# Altium integrated library Maxim Digital Potentiometers.IntLib: 1045 symbols (part 23 of 42)
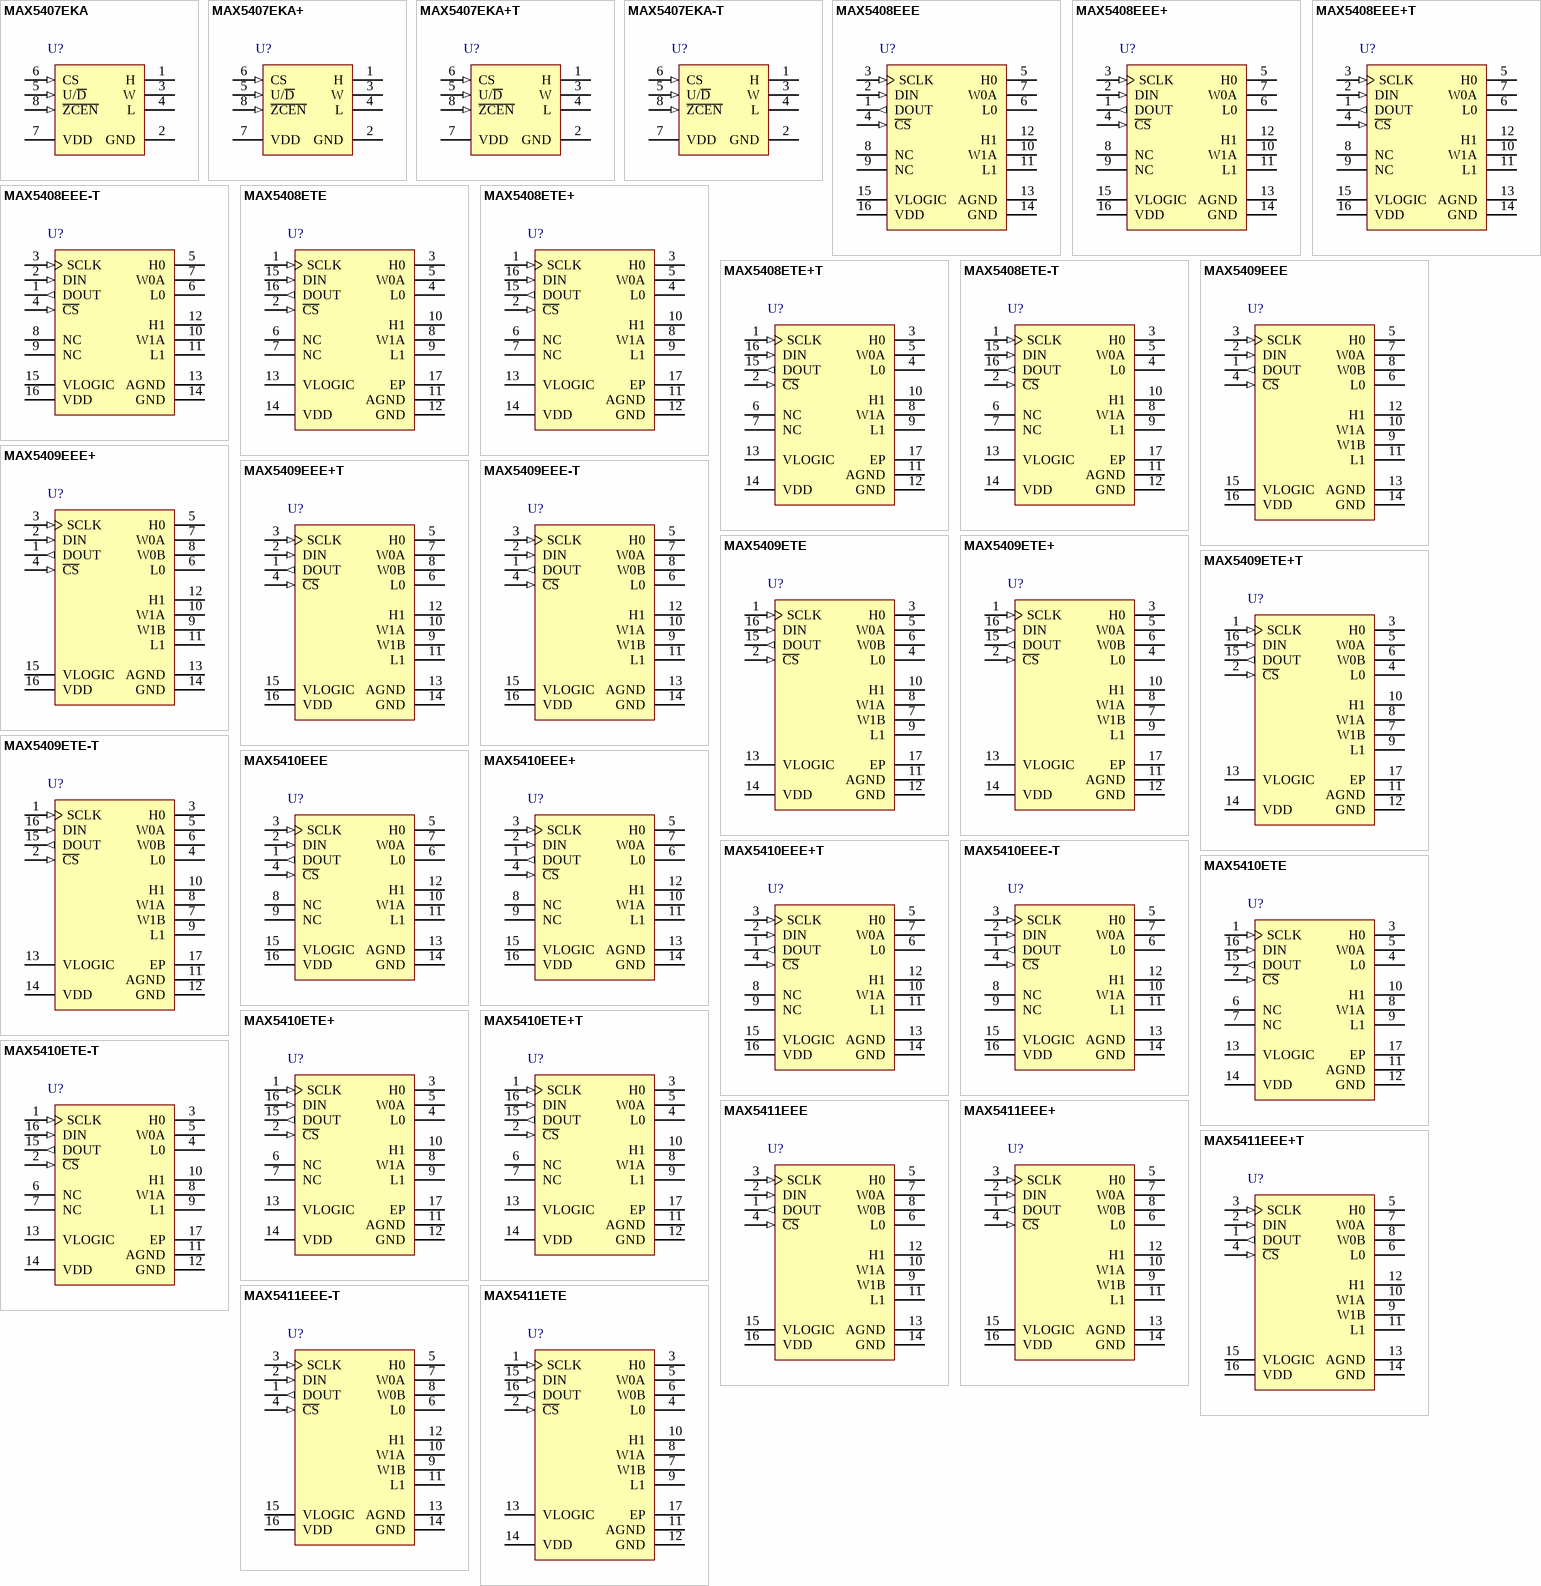
[diagram p51: symbols MAX5407EKA to MAX5411ETE]

## MAX5410EEE-T
designator U?
Dual Audio Digital Potentiometer with 3-Wire Serial SPI Control Interface, Volatile, Log Taper, 32 Steps, -40 to 85 degC, 16-pin QSOP (E16-1), Tape and Reel; PartNumber: MAX5410EEE-T; DatasheetVersion: Rev. 3; PackageVersion: Rev. K, 04/2012; PackageReference: E16-1; PackageDescription: 16-Pin Quarter Small-Outline Package (E16-1), Body 4.90 x 3.89 mm, Pitch 0.635 mm; Supplier 1: Mouser; Supplier Part Number 1: N/A; Control Interface: 3-Wire Serial SPI; Mounting Technology: Surface Mount; Code_JEDEC: MO137; ComponentLink1Description: Manufacturer URL; ComponentLink1URL: http://www.maximintegrated.com/; ComponentLink2Description: Datasheet; ComponentLink2URL: http://datasheets.maximintegrated.com/en/ds/MAX5408-MAX5411.pdf; ComponentLink3Description: Package Specification; ComponentLink3URL: http://pdfserv.maximintegrated.com/package_dwgs/21-0055.PDF
footprint MAXM-E16-1_N (SOP, 16-Leads, Body 4.9x3.89mm, Pitch 0.635mm, IPC Medium Density)
footprint MAXM-E16-1_L (SOP, 16-Leads, Body 4.9x3.89mm, Pitch 0.635mm, IPC High Density)
footprint MAXM-E16-1_M (SOP, 16-Leads, Body 4.9x3.89mm, Pitch 0.635mm, IPC Low Density)
pins: 1 DOUT (out) "Serial Data Output", 2 DIN (in) "Serial Data Input", 3 SCLK (in) "Serial Clock Input", 4 ~{CS} (in) "Chip-Select Input", 5 H0 "High Terminal of Resistor 0", 6 L0 "Low Terminal of Resistor 0", 7 W0A "Wiper Terminal A of Resistor 0", 8 NC "No Connection. Not internally connected.", 9 NC "No Connection. Not internally connected.", 10 W1A "Wiper Terminal A of Resistor 1", 11 L1 "Low Terminal of Resistor 1", 12 H1 "High Terminal of Resistor 1", 13 AGND (power) "Analog Ground", 14 GND (power) "Ground", 15 VLOGIC (power) "Digital Logic Power Supply", 16 VDD (power) "Analog Power Supply"

## MAX5410ETE
designator U?
Dual Audio Digital Potentiometer with 3-Wire Serial SPI Control Interface, Volatile, Log Taper, 32 Steps, -40 to 85 degC, 16-pin TQFN (T1644-4); PartNumber: MAX5410ETE; DatasheetVersion: Rev. 3; PackageVersion: Rev. L, 04/2012; PackageReference: T1644-4; PackageDescription: 16-Pin Thin Quad Flatpack, No Leads (T1644-4), Body 4 x 4 mm, Pitch 0.65 mm; Supplier 1: Mouser; Supplier Part Number 1: N/A; Control Interface: 3-Wire Serial SPI; Mounting Technology: Surface Mount; Code_JEDEC: MO220; ComponentLink1Description: Manufacturer URL; ComponentLink1URL: http://www.maximintegrated.com/; ComponentLink2Description: Datasheet; ComponentLink2URL: http://datasheets.maximintegrated.com/en/ds/MAX5408-MAX5411.pdf; ComponentLink3Description: Package Specification; ComponentLink3URL: http://pdfserv.maximintegrated.com/package_dwgs/21-0139.PDF
footprint MAXM-T1644-4_N (QFN, 16-Leads, Body 4x4mm, Pitch 0.65mm, Thermal Pad 2.1x2.1mm, IPC Medium Density)
footprint MAXM-T1644-4_L (QFN, 16-Leads, Body 4x4mm, Pitch 0.65mm, Thermal Pad 2.1x2.1mm, IPC High Density)
footprint MAXM-T1644-4_M (QFN, 16-Leads, Body 4x4mm, Pitch 0.65mm, Thermal Pad 2.1x2.1mm, IPC Low Density)
pins: 1 SCLK (in) "Serial Clock Input", 2 ~{CS} (in) "Chip-Select Input", 3 H0 "High Terminal of Resistor 0", 4 L0 "Low Terminal of Resistor 0", 5 W0A "Wiper Terminal A of Resistor 0", 6 NC "No Connection. Not internally connected.", 7 NC "No Connection. Not internally connected.", 8 W1A "Wiper Terminal A of Resistor 1", 9 L1 "Low Terminal of Resistor 1", 10 H1 "High Terminal of Resistor 1", 11 AGND (power) "Analog Ground", 12 GND (power) "Ground", 13 VLOGIC (power) "Digital Logic Power Supply", 14 VDD (power) "Analog Power Supply", 15 DOUT (out) "Serial Data Output", 16 DIN (in) "Serial Data Input", 17 EP

## MAX5410ETE+
designator U?
Dual Audio Digital Potentiometer with 3-Wire Serial SPI Control Interface, Volatile, Log Taper, 32 Steps, -40 to 85 degC, 16-pin TQFN (T1644+4), Pb-Free; PartNumber: MAX5410ETE+; DatasheetVersion: Rev. 3; PackageVersion: Rev. L, 04/2012; PackageReference: T1644+4; PackageDescription: 16-Pin Thin Quad Flatpack, No Leads (T1644+4), Body 4 x 4 mm, Pitch 0.65 mm; Supplier 1: Digi-Key; Supplier Part Number 1: MAX5410ETE+-ND; Supplier 2: Mouser; Supplier Part Number 2: 700-MAX5410ETE; Control Interface: 3-Wire Serial SPI; Mounting Technology: Surface Mount; Code_JEDEC: MO220; ComponentLink1Description: Manufacturer URL; ComponentLink1URL: http://www.maximintegrated.com/; ComponentLink2Description: Datasheet; ComponentLink2URL: http://datasheets.maximintegrated.com/en/ds/MAX5408-MAX5411.pdf; ComponentLink3Description: Package Specification; ComponentLink3URL: http://pdfserv.maximintegrated.com/package_dwgs/21-0139.PDF
footprint MAXM-T1644+4_N (QFN, 16-Leads, Body 4x4mm, Pitch 0.65mm, Thermal Pad 2.1x2.1mm, IPC Medium Density)
footprint MAXM-T1644+4_L (QFN, 16-Leads, Body 4x4mm, Pitch 0.65mm, Thermal Pad 2.1x2.1mm, IPC High Density)
footprint MAXM-T1644+4_M (QFN, 16-Leads, Body 4x4mm, Pitch 0.65mm, Thermal Pad 2.1x2.1mm, IPC Low Density)
pins: 1 SCLK (in) "Serial Clock Input", 2 ~{CS} (in) "Chip-Select Input", 3 H0 "High Terminal of Resistor 0", 4 L0 "Low Terminal of Resistor 0", 5 W0A "Wiper Terminal A of Resistor 0", 6 NC "No Connection. Not internally connected.", 7 NC "No Connection. Not internally connected.", 8 W1A "Wiper Terminal A of Resistor 1", 9 L1 "Low Terminal of Resistor 1", 10 H1 "High Terminal of Resistor 1", 11 AGND (power) "Analog Ground", 12 GND (power) "Ground", 13 VLOGIC (power) "Digital Logic Power Supply", 14 VDD (power) "Analog Power Supply", 15 DOUT (out) "Serial Data Output", 16 DIN (in) "Serial Data Input", 17 EP

## MAX5410ETE+T
designator U?
Dual Audio Digital Potentiometer with 3-Wire Serial SPI Control Interface, Volatile, Log Taper, 32 Steps, -40 to 85 degC, 16-pin TQFN (T1644+4), Pb-Free, Tape and Reel; PartNumber: MAX5410ETE+T; DatasheetVersion: Rev. 3; PackageVersion: Rev. L, 04/2012; PackageReference: T1644+4; PackageDescription: 16-Pin Thin Quad Flatpack, No Leads (T1644+4), Body 4 x 4 mm, Pitch 0.65 mm; Supplier 1: Digi-Key; Supplier Part Number 1: MAX5410ETE+T-ND; Supplier 2: Mouser; Supplier Part Number 2: 700-MAX5410ETET; Control Interface: 3-Wire Serial SPI; Mounting Technology: Surface Mount; Code_JEDEC: MO220; ComponentLink1Description: Manufacturer URL; ComponentLink1URL: http://www.maximintegrated.com/; ComponentLink2Description: Datasheet; ComponentLink2URL: http://datasheets.maximintegrated.com/en/ds/MAX5408-MAX5411.pdf; ComponentLink3Description: Package Specification; ComponentLink3URL: http://pdfserv.maximintegrated.com/package_dwgs/21-0139.PDF
footprint MAXM-T1644+4_N (QFN, 16-Leads, Body 4x4mm, Pitch 0.65mm, Thermal Pad 2.1x2.1mm, IPC Medium Density)
footprint MAXM-T1644+4_L (QFN, 16-Leads, Body 4x4mm, Pitch 0.65mm, Thermal Pad 2.1x2.1mm, IPC High Density)
footprint MAXM-T1644+4_M (QFN, 16-Leads, Body 4x4mm, Pitch 0.65mm, Thermal Pad 2.1x2.1mm, IPC Low Density)
pins: 1 SCLK (in) "Serial Clock Input", 2 ~{CS} (in) "Chip-Select Input", 3 H0 "High Terminal of Resistor 0", 4 L0 "Low Terminal of Resistor 0", 5 W0A "Wiper Terminal A of Resistor 0", 6 NC "No Connection. Not internally connected.", 7 NC "No Connection. Not internally connected.", 8 W1A "Wiper Terminal A of Resistor 1", 9 L1 "Low Terminal of Resistor 1", 10 H1 "High Terminal of Resistor 1", 11 AGND (power) "Analog Ground", 12 GND (power) "Ground", 13 VLOGIC (power) "Digital Logic Power Supply", 14 VDD (power) "Analog Power Supply", 15 DOUT (out) "Serial Data Output", 16 DIN (in) "Serial Data Input", 17 EP

## MAX5410ETE-T
designator U?
Dual Audio Digital Potentiometer with 3-Wire Serial SPI Control Interface, Volatile, Log Taper, 32 Steps, -40 to 85 degC, 16-pin TQFN (T1644-4), Tape and Reel; PartNumber: MAX5410ETE-T; DatasheetVersion: Rev. 3; PackageVersion: Rev. L, 04/2012; PackageReference: T1644-4; PackageDescription: 16-Pin Thin Quad Flatpack, No Leads (T1644-4), Body 4 x 4 mm, Pitch 0.65 mm; Supplier 1: Mouser; Supplier Part Number 1: N/A; Control Interface: 3-Wire Serial SPI; Mounting Technology: Surface Mount; Code_JEDEC: MO220; ComponentLink1Description: Manufacturer URL; ComponentLink1URL: http://www.maximintegrated.com/; ComponentLink2Description: Datasheet; ComponentLink2URL: http://datasheets.maximintegrated.com/en/ds/MAX5408-MAX5411.pdf; ComponentLink3Description: Package Specification; ComponentLink3URL: http://pdfserv.maximintegrated.com/package_dwgs/21-0139.PDF
footprint MAXM-T1644-4_N (QFN, 16-Leads, Body 4x4mm, Pitch 0.65mm, Thermal Pad 2.1x2.1mm, IPC Medium Density)
footprint MAXM-T1644-4_L (QFN, 16-Leads, Body 4x4mm, Pitch 0.65mm, Thermal Pad 2.1x2.1mm, IPC High Density)
footprint MAXM-T1644-4_M (QFN, 16-Leads, Body 4x4mm, Pitch 0.65mm, Thermal Pad 2.1x2.1mm, IPC Low Density)
pins: 1 SCLK (in) "Serial Clock Input", 2 ~{CS} (in) "Chip-Select Input", 3 H0 "High Terminal of Resistor 0", 4 L0 "Low Terminal of Resistor 0", 5 W0A "Wiper Terminal A of Resistor 0", 6 NC "No Connection. Not internally connected.", 7 NC "No Connection. Not internally connected.", 8 W1A "Wiper Terminal A of Resistor 1", 9 L1 "Low Terminal of Resistor 1", 10 H1 "High Terminal of Resistor 1", 11 AGND (power) "Analog Ground", 12 GND (power) "Ground", 13 VLOGIC (power) "Digital Logic Power Supply", 14 VDD (power) "Analog Power Supply", 15 DOUT (out) "Serial Data Output", 16 DIN (in) "Serial Data Input", 17 EP

## MAX5411EEE
designator U?
Dual Audio Digital Potentiometer with 3-Wire Serial SPI Control Interface, Volatile, Log Taper, 32 Steps, -40 to 85 degC, 16-pin QSOP (E16-4); PartNumber: MAX5411EEE; DatasheetVersion: Rev. 3; PackageVersion: Rev. K, 04/2012; PackageReference: E16-4; PackageDescription: 16-Pin Quarter Small-Outline Package, Body 4.90 x 3.89 mm, Pitch 0.635 mm; Supplier 1: Mouser; Supplier Part Number 1: N/A; Control Interface: 3-Wire Serial SPI; Features: Dual Wipers Per Resistor String; Mounting Technology: Surface Mount; Code_JEDEC: MO137; ComponentLink1Description: Manufacturer URL; ComponentLink1URL: http://www.maximintegrated.com/; ComponentLink2Description: Datasheet; ComponentLink2URL: http://datasheets.maximintegrated.com/en/ds/MAX5408-MAX5411.pdf; ComponentLink3Description: Package Specification; ComponentLink3URL: http://pdfserv.maximintegrated.com/package_dwgs/21-0055.PDF
footprint MAXM-E16-4_N (SOP, 16-Leads, Body 4.90x3.89mm, Pitch 0.635mm, IPC Medium Density)
footprint MAXM-E16-4_L (SOP, 16-Leads, Body 4.90x3.89mm, Pitch 0.635mm, IPC High Density)
footprint MAXM-E16-4_M (SOP, 16-Leads, Body 4.90x3.89mm, Pitch 0.635mm, IPC Low Density)
pins: 1 DOUT (out) "Serial Data Output", 2 DIN (in) "Serial Data Input", 3 SCLK (in) "Serial Clock Input", 4 ~{CS} (in) "Chip-Select Input", 5 H0 "High Terminal of Resistor 0", 6 L0 "Low Terminal of Resistor 0", 7 W0A "Wiper Terminal A of Resistor 0", 8 W0B "Wiper Terminal B of Resistor 0", 9 W1B "Wiper Terminal B of Resistor 1", 10 W1A "Wiper Terminal A of Resistor 1", 11 L1 "Low Terminal of Resistor 1", 12 H1 "High Terminal of Resistor 1", 13 AGND (power) "Analog Ground", 14 GND (power) "Ground", 15 VLOGIC (power) "Digital Logic Power Supply", 16 VDD (power) "Analog Power Supply"

## MAX5411EEE+
designator U?
Dual Audio Digital Potentiometer with 3-Wire Serial SPI Control Interface, Volatile, Log Taper, 32 Steps, -40 to 85 degC, 16-pin QSOP (E16+4), Pb-Free; PartNumber: MAX5411EEE+; DatasheetVersion: Rev. 3; PackageVersion: Rev. K, 04/2012; PackageReference: E16+4; PackageDescription: 16-Pin Quarter Small-Outline Package, Body 4.90 x 3.89 mm, Pitch 0.635 mm; Supplier 1: Digi-Key; Supplier Part Number 1: MAX5411EEE+-ND; Supplier 2: Mouser; Supplier Part Number 2: 700-MAX5411EEE; Control Interface: 3-Wire Serial SPI; Features: Dual Wipers Per Resistor String; Mounting Technology: Surface Mount; Code_JEDEC: MO137; ComponentLink1Description: Manufacturer URL; ComponentLink1URL: http://www.maximintegrated.com/; ComponentLink2Description: Datasheet; ComponentLink2URL: http://datasheets.maximintegrated.com/en/ds/MAX5408-MAX5411.pdf; ComponentLink3Description: Package Specification; ComponentLink3URL: http://pdfserv.maximintegrated.com/package_dwgs/21-0055.PDF
footprint MAXM-E16+4_N (SOP, 16-Leads, Body 4.90x3.89mm, Pitch 0.635mm, IPC Medium Density)
footprint MAXM-E16+4_L (SOP, 16-Leads, Body 4.90x3.89mm, Pitch 0.635mm, IPC High Density)
footprint MAXM-E16+4_M (SOP, 16-Leads, Body 4.90x3.89mm, Pitch 0.635mm, IPC Low Density)
pins: 1 DOUT (out) "Serial Data Output", 2 DIN (in) "Serial Data Input", 3 SCLK (in) "Serial Clock Input", 4 ~{CS} (in) "Chip-Select Input", 5 H0 "High Terminal of Resistor 0", 6 L0 "Low Terminal of Resistor 0", 7 W0A "Wiper Terminal A of Resistor 0", 8 W0B "Wiper Terminal B of Resistor 0", 9 W1B "Wiper Terminal B of Resistor 1", 10 W1A "Wiper Terminal A of Resistor 1", 11 L1 "Low Terminal of Resistor 1", 12 H1 "High Terminal of Resistor 1", 13 AGND (power) "Analog Ground", 14 GND (power) "Ground", 15 VLOGIC (power) "Digital Logic Power Supply", 16 VDD (power) "Analog Power Supply"

## MAX5411EEE+T
designator U?
Dual Audio Digital Potentiometer with 3-Wire Serial SPI Control Interface, Volatile, Log Taper, 32 Steps, -40 to 85 degC, 16-pin QSOP (E16+4), Pb-Free, Tape and Reel; PartNumber: MAX5411EEE+T; DatasheetVersion: Rev. 3; PackageVersion: Rev. K, 04/2012; PackageReference: E16+4; PackageDescription: 16-Pin Quarter Small-Outline Package, Body 4.90 x 3.89 mm, Pitch 0.635 mm; Supplier 1: Digi-Key; Supplier Part Number 1: MAX5411EEE+T-ND; Supplier 2: Mouser; Supplier Part Number 2: 700-MAX5411EEET; Control Interface: 3-Wire Serial SPI; Features: Dual Wipers Per Resistor String; Mounting Technology: Surface Mount; Code_JEDEC: MO137; ComponentLink1Description: Manufacturer URL; ComponentLink1URL: http://www.maximintegrated.com/; ComponentLink2Description: Datasheet; ComponentLink2URL: http://datasheets.maximintegrated.com/en/ds/MAX5408-MAX5411.pdf; ComponentLink3Description: Package Specification; ComponentLink3URL: http://pdfserv.maximintegrated.com/package_dwgs/21-0055.PDF
footprint MAXM-E16+4_N (SOP, 16-Leads, Body 4.90x3.89mm, Pitch 0.635mm, IPC Medium Density)
footprint MAXM-E16+4_L (SOP, 16-Leads, Body 4.90x3.89mm, Pitch 0.635mm, IPC High Density)
footprint MAXM-E16+4_M (SOP, 16-Leads, Body 4.90x3.89mm, Pitch 0.635mm, IPC Low Density)
pins: 1 DOUT (out) "Serial Data Output", 2 DIN (in) "Serial Data Input", 3 SCLK (in) "Serial Clock Input", 4 ~{CS} (in) "Chip-Select Input", 5 H0 "High Terminal of Resistor 0", 6 L0 "Low Terminal of Resistor 0", 7 W0A "Wiper Terminal A of Resistor 0", 8 W0B "Wiper Terminal B of Resistor 0", 9 W1B "Wiper Terminal B of Resistor 1", 10 W1A "Wiper Terminal A of Resistor 1", 11 L1 "Low Terminal of Resistor 1", 12 H1 "High Terminal of Resistor 1", 13 AGND (power) "Analog Ground", 14 GND (power) "Ground", 15 VLOGIC (power) "Digital Logic Power Supply", 16 VDD (power) "Analog Power Supply"

## MAX5411EEE-T
designator U?
Dual Audio Digital Potentiometer with 3-Wire Serial SPI Control Interface, Volatile, Log Taper, 32 Steps, -40 to 85 degC, 16-pin QSOP (E16-4), Tape and Reel; PartNumber: MAX5411EEE-T; DatasheetVersion: Rev. 3; PackageVersion: Rev. K, 04/2012; PackageReference: E16-4; PackageDescription: 16-Pin Quarter Small-Outline Package, Body 4.90 x 3.89 mm, Pitch 0.635 mm; Supplier 1: Mouser; Supplier Part Number 1: N/A; Control Interface: 3-Wire Serial SPI; Features: Dual Wipers Per Resistor String; Mounting Technology: Surface Mount; Code_JEDEC: MO137; ComponentLink1Description: Manufacturer URL; ComponentLink1URL: http://www.maximintegrated.com/; ComponentLink2Description: Datasheet; ComponentLink2URL: http://datasheets.maximintegrated.com/en/ds/MAX5408-MAX5411.pdf; ComponentLink3Description: Package Specification; ComponentLink3URL: http://pdfserv.maximintegrated.com/package_dwgs/21-0055.PDF
footprint MAXM-E16-4_N (SOP, 16-Leads, Body 4.90x3.89mm, Pitch 0.635mm, IPC Medium Density)
footprint MAXM-E16-4_L (SOP, 16-Leads, Body 4.90x3.89mm, Pitch 0.635mm, IPC High Density)
footprint MAXM-E16-4_M (SOP, 16-Leads, Body 4.90x3.89mm, Pitch 0.635mm, IPC Low Density)
pins: 1 DOUT (out) "Serial Data Output", 2 DIN (in) "Serial Data Input", 3 SCLK (in) "Serial Clock Input", 4 ~{CS} (in) "Chip-Select Input", 5 H0 "High Terminal of Resistor 0", 6 L0 "Low Terminal of Resistor 0", 7 W0A "Wiper Terminal A of Resistor 0", 8 W0B "Wiper Terminal B of Resistor 0", 9 W1B "Wiper Terminal B of Resistor 1", 10 W1A "Wiper Terminal A of Resistor 1", 11 L1 "Low Terminal of Resistor 1", 12 H1 "High Terminal of Resistor 1", 13 AGND (power) "Analog Ground", 14 GND (power) "Ground", 15 VLOGIC (power) "Digital Logic Power Supply", 16 VDD (power) "Analog Power Supply"

## MAX5411ETE
designator U?
Dual Audio Digital Potentiometer with 3-Wire Serial SPI Control Interface, Volatile, Log Taper, 32 Steps, -40 to 85 degC, 16-pin TQFN (T1644-4); PartNumber: MAX5411ETE; DatasheetVersion: Rev. 3; PackageVersion: Rev. L, 04/2012; PackageReference: T1644-4; PackageDescription: 16-Pin Thin Quad Flatpack, No Leads (T1644-4), Body 4 x 4 mm, Pitch 0.65 mm; Supplier 1: Mouser; Supplier Part Number 1: N/A; Control Interface: 3-Wire Serial SPI; Features: Dual Wipers Per Resistor String; Mounting Technology: Surface Mount; Code_JEDEC: MO220; ComponentLink1Description: Manufacturer URL; ComponentLink1URL: http://www.maximintegrated.com/; ComponentLink2Description: Datasheet; ComponentLink2URL: http://datasheets.maximintegrated.com/en/ds/MAX5408-MAX5411.pdf; ComponentLink3Description: Package Specification; ComponentLink3URL: http://pdfserv.maximintegrated.com/package_dwgs/21-0139.PDF
footprint MAXM-T1644-4_N (QFN, 16-Leads, Body 4x4mm, Pitch 0.65mm, Thermal Pad 2.1x2.1mm, IPC Medium Density)
footprint MAXM-T1644-4_L (QFN, 16-Leads, Body 4x4mm, Pitch 0.65mm, Thermal Pad 2.1x2.1mm, IPC High Density)
footprint MAXM-T1644-4_M (QFN, 16-Leads, Body 4x4mm, Pitch 0.65mm, Thermal Pad 2.1x2.1mm, IPC Low Density)
pins: 1 SCLK (in) "Serial Clock Input", 2 ~{CS} (in) "Chip-Select Input", 3 H0 "High Terminal of Resistor 0", 4 L0 "Low Terminal of Resistor 0", 5 W0A "Wiper Terminal A of Resistor 0", 6 W0B "Wiper Terminal B of Resistor 0", 7 W1B "Wiper Terminal B of Resistor 1", 8 W1A "Wiper Terminal A of Resistor 1", 9 L1 "Low Terminal of Resistor 1", 10 H1 "High Terminal of Resistor 1", 11 AGND (power) "Analog Ground", 12 GND (power) "Ground", 13 VLOGIC (power) "Digital Logic Power Supply", 14 VDD (power) "Analog Power Supply", 15 DIN (in) "Serial Data Input", 16 DOUT (out) "Serial Data Output", 17 EP

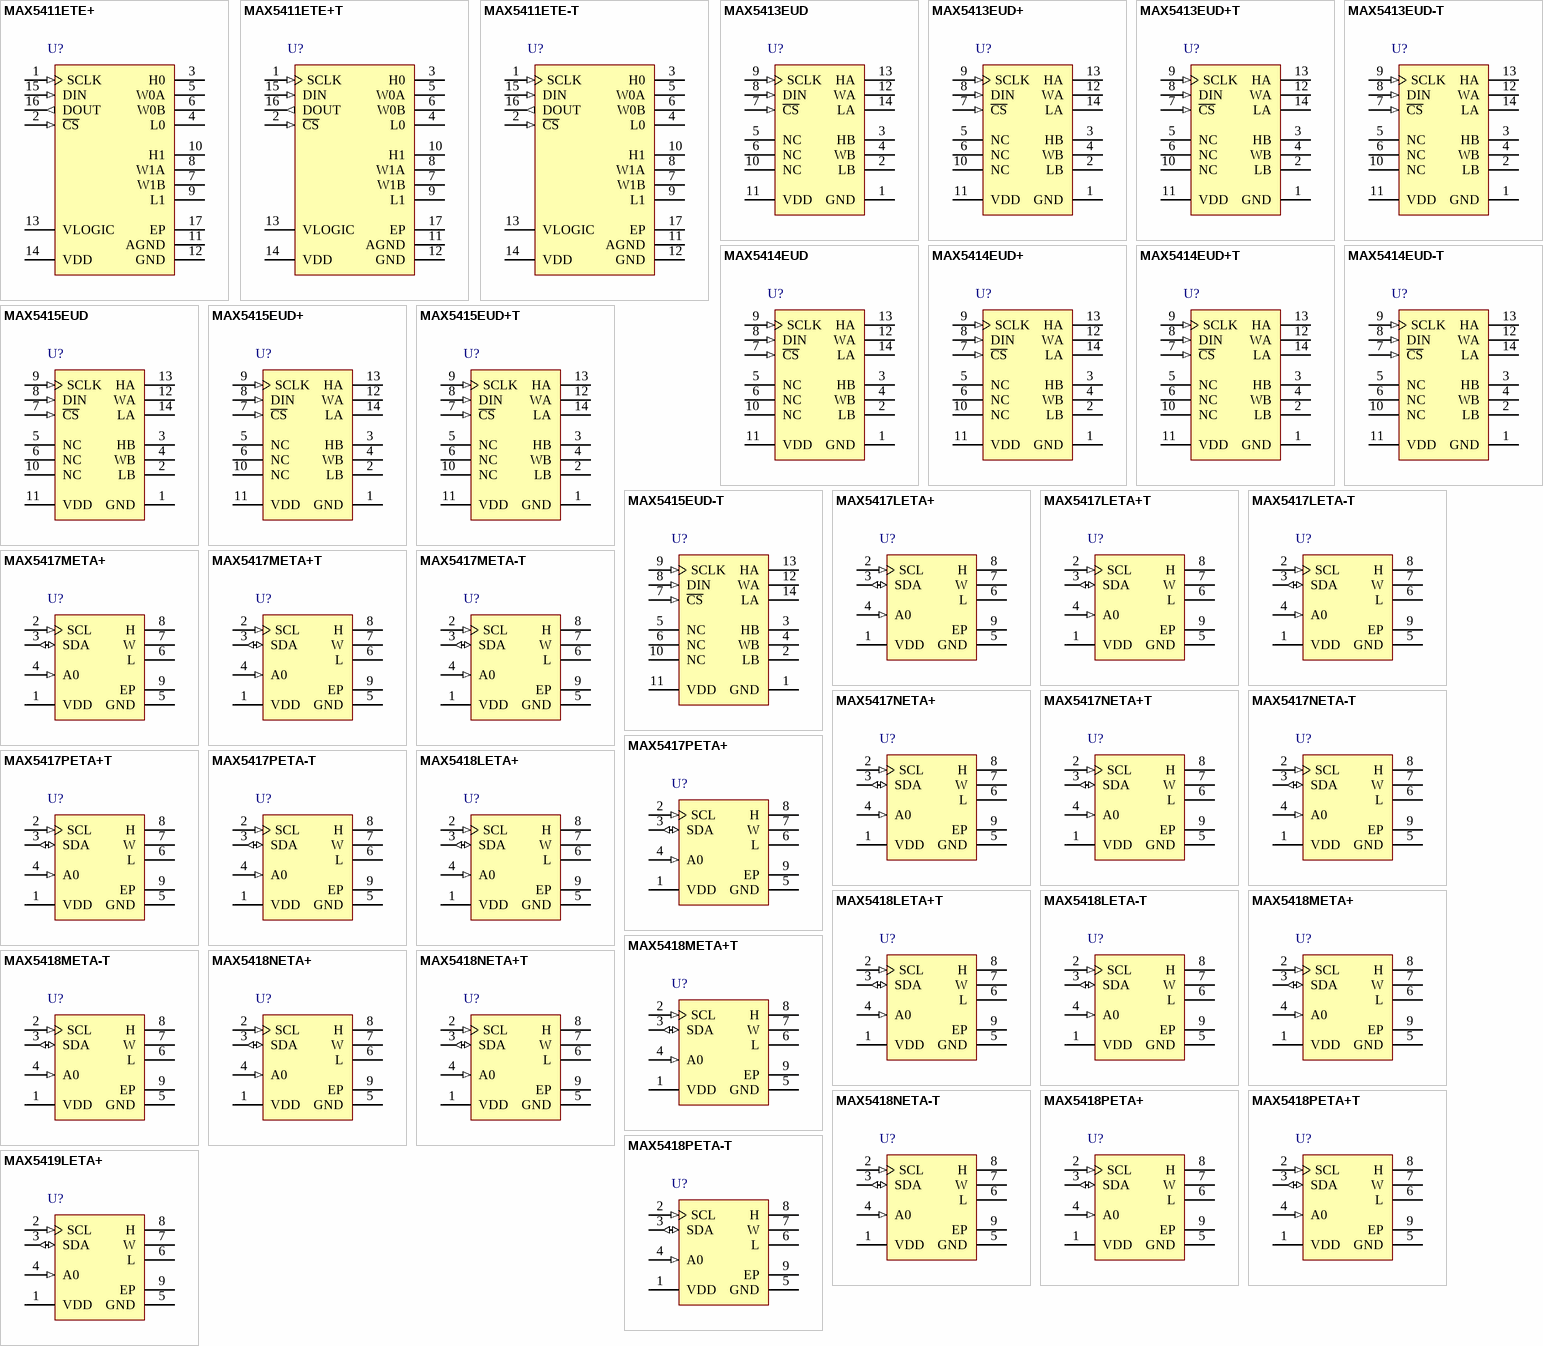
[diagram p16: symbols MAX5411ETE+ to MAX5419LETA+]

## MAX5411ETE+
designator U?
Dual Audio Digital Potentiometer with 3-Wire Serial SPI Control Interface, Volatile, Log Taper, 32 Steps, -40 to 85 degC, 16-pin TQFN (T1644+4), Pb-Free; PartNumber: MAX5411ETE+; DatasheetVersion: Rev. 3; PackageVersion: Rev. L, 04/2012; PackageReference: T1644+4; PackageDescription: 16-Pin Thin Quad Flatpack, No Leads (T1644+4), Body 4 x 4 mm, Pitch 0.65 mm; Supplier 1: Digi-Key; Supplier Part Number 1: MAX5411ETE+-ND; Supplier 2: Mouser; Supplier Part Number 2: 700-MAX5411ETE; Control Interface: 3-Wire Serial SPI; Features: Dual Wipers Per Resistor String; Mounting Technology: Surface Mount; Code_JEDEC: MO220; ComponentLink1Description: Manufacturer URL; ComponentLink1URL: http://www.maximintegrated.com/; ComponentLink2Description: Datasheet; ComponentLink2URL: http://datasheets.maximintegrated.com/en/ds/MAX5408-MAX5411.pdf; ComponentLink3Description: Package Specification; ComponentLink3URL: http://pdfserv.maximintegrated.com/package_dwgs/21-0139.PDF
footprint MAXM-T1644+4_N (QFN, 16-Leads, Body 4x4mm, Pitch 0.65mm, Thermal Pad 2.1x2.1mm, IPC Medium Density)
footprint MAXM-T1644+4_L (QFN, 16-Leads, Body 4x4mm, Pitch 0.65mm, Thermal Pad 2.1x2.1mm, IPC High Density)
footprint MAXM-T1644+4_M (QFN, 16-Leads, Body 4x4mm, Pitch 0.65mm, Thermal Pad 2.1x2.1mm, IPC Low Density)
pins: 1 SCLK (in) "Serial Clock Input", 2 ~{CS} (in) "Chip-Select Input", 3 H0 "High Terminal of Resistor 0", 4 L0 "Low Terminal of Resistor 0", 5 W0A "Wiper Terminal A of Resistor 0", 6 W0B "Wiper Terminal B of Resistor 0", 7 W1B "Wiper Terminal B of Resistor 1", 8 W1A "Wiper Terminal A of Resistor 1", 9 L1 "Low Terminal of Resistor 1", 10 H1 "High Terminal of Resistor 1", 11 AGND (power) "Analog Ground", 12 GND (power) "Ground", 13 VLOGIC (power) "Digital Logic Power Supply", 14 VDD (power) "Analog Power Supply", 15 DIN (in) "Serial Data Input", 16 DOUT (out) "Serial Data Output", 17 EP

## MAX5411ETE+T
designator U?
Dual Audio Digital Potentiometer with 3-Wire Serial SPI Control Interface, Volatile, Log Taper, 32 Steps, -40 to 85 degC, 16-pin TQFN (T1644+4), Pb-Free, Tape and Reel; PartNumber: MAX5411ETE+T; DatasheetVersion: Rev. 3; PackageVersion: Rev. L, 04/2012; PackageReference: T1644+4; PackageDescription: 16-Pin Thin Quad Flatpack, No Leads (T1644+4), Body 4 x 4 mm, Pitch 0.65 mm; Supplier 1: Digi-Key; Supplier Part Number 1: MAX5411ETE+T-ND; Supplier 2: Mouser; Supplier Part Number 2: 700-MAX5411ETET; Control Interface: 3-Wire Serial SPI; Features: Dual Wipers Per Resistor String; Mounting Technology: Surface Mount; Code_JEDEC: MO220; ComponentLink1Description: Manufacturer URL; ComponentLink1URL: http://www.maximintegrated.com/; ComponentLink2Description: Datasheet; ComponentLink2URL: http://datasheets.maximintegrated.com/en/ds/MAX5408-MAX5411.pdf; ComponentLink3Description: Package Specification; ComponentLink3URL: http://pdfserv.maximintegrated.com/package_dwgs/21-0139.PDF
footprint MAXM-T1644+4_N (QFN, 16-Leads, Body 4x4mm, Pitch 0.65mm, Thermal Pad 2.1x2.1mm, IPC Medium Density)
footprint MAXM-T1644+4_L (QFN, 16-Leads, Body 4x4mm, Pitch 0.65mm, Thermal Pad 2.1x2.1mm, IPC High Density)
footprint MAXM-T1644+4_M (QFN, 16-Leads, Body 4x4mm, Pitch 0.65mm, Thermal Pad 2.1x2.1mm, IPC Low Density)
pins: 1 SCLK (in) "Serial Clock Input", 2 ~{CS} (in) "Chip-Select Input", 3 H0 "High Terminal of Resistor 0", 4 L0 "Low Terminal of Resistor 0", 5 W0A "Wiper Terminal A of Resistor 0", 6 W0B "Wiper Terminal B of Resistor 0", 7 W1B "Wiper Terminal B of Resistor 1", 8 W1A "Wiper Terminal A of Resistor 1", 9 L1 "Low Terminal of Resistor 1", 10 H1 "High Terminal of Resistor 1", 11 AGND (power) "Analog Ground", 12 GND (power) "Ground", 13 VLOGIC (power) "Digital Logic Power Supply", 14 VDD (power) "Analog Power Supply", 15 DIN (in) "Serial Data Input", 16 DOUT (out) "Serial Data Output", 17 EP

## MAX5411ETE-T
designator U?
Dual Audio Digital Potentiometer with 3-Wire Serial SPI Control Interface, Volatile, Log Taper, 32 Steps, -40 to 85 degC, 16-pin TQFN (T1644-4), Tape and Reel; PartNumber: MAX5411ETE-T; DatasheetVersion: Rev. 3; PackageVersion: Rev. L, 04/2012; PackageReference: T1644-4; PackageDescription: 16-Pin Thin Quad Flatpack, No Leads (T1644-4), Body 4 x 4 mm, Pitch 0.65 mm; Supplier 1: Mouser; Supplier Part Number 1: N/A; Control Interface: 3-Wire Serial SPI; Features: Dual Wipers Per Resistor String; Mounting Technology: Surface Mount; Code_JEDEC: MO220; ComponentLink1Description: Manufacturer URL; ComponentLink1URL: http://www.maximintegrated.com/; ComponentLink2Description: Datasheet; ComponentLink2URL: http://datasheets.maximintegrated.com/en/ds/MAX5408-MAX5411.pdf; ComponentLink3Description: Package Specification; ComponentLink3URL: http://pdfserv.maximintegrated.com/package_dwgs/21-0139.PDF
footprint MAXM-T1644-4_N (QFN, 16-Leads, Body 4x4mm, Pitch 0.65mm, Thermal Pad 2.1x2.1mm, IPC Medium Density)
footprint MAXM-T1644-4_L (QFN, 16-Leads, Body 4x4mm, Pitch 0.65mm, Thermal Pad 2.1x2.1mm, IPC High Density)
footprint MAXM-T1644-4_M (QFN, 16-Leads, Body 4x4mm, Pitch 0.65mm, Thermal Pad 2.1x2.1mm, IPC Low Density)
pins: 1 SCLK (in) "Serial Clock Input", 2 ~{CS} (in) "Chip-Select Input", 3 H0 "High Terminal of Resistor 0", 4 L0 "Low Terminal of Resistor 0", 5 W0A "Wiper Terminal A of Resistor 0", 6 W0B "Wiper Terminal B of Resistor 0", 7 W1B "Wiper Terminal B of Resistor 1", 8 W1A "Wiper Terminal A of Resistor 1", 9 L1 "Low Terminal of Resistor 1", 10 H1 "High Terminal of Resistor 1", 11 AGND (power) "Analog Ground", 12 GND (power) "Ground", 13 VLOGIC (power) "Digital Logic Power Supply", 14 VDD (power) "Analog Power Supply", 15 DIN (in) "Serial Data Input", 16 DOUT (out) "Serial Data Output", 17 EP

## MAX5413EUD
designator U?
Dual,Low Drift, Digital Potentiometers with 3-Wire Serial SPI Control Interface, Volatile, Linear Taper, 256 Steps, -40 to 85 degC, 14-pin TSSOP (U14-1); PartNumber: MAX5413EUD; DatasheetVersion: Rev. 0; PackageVersion: Rev. L, 07/2010; PackageReference: U14-1; PackageDescription: 14-Pin Thin Shrink Small-Outline Package (U14-1), Body 5 x 4.4 mm, Pitch 0.65 mm; Supplier 1: Mouser; Supplier Part Number 1: N/A; Control Interface: 3-Wire Serial SPI; Mounting Technology: Surface Mount; Code_JEDEC: MO-153; ComponentLink1Description: Manufacturer URL; ComponentLink1URL: http://www.maximintegrated.com/; ComponentLink2Description: Datasheet; ComponentLink2URL: http://datasheets.maximintegrated.com/en/ds/MAX5413-MAX5415.pdf; ComponentLink3Description: Package Specification; ComponentLink3URL: http://pdfserv.maximintegrated.com/package_dwgs/21-0066.PDF
footprint MAXM-U14-1_N (SOP, 14-Leads, Body 5x4.4mm, Pitch 0.65mm, IPC Medium Density)
footprint MAXM-U14-1_L (SOP, 14-Leads, Body 5x4.4mm, Pitch 0.65mm, IPC High Density)
footprint MAXM-U14-1_M (SOP, 14-Leads, Body 5x4.4mm, Pitch 0.65mm, IPC Low Density)
pins: 1 GND (power) "Ground", 2 LB "Low Terminal of Resistor B", 3 HB "High Terminal of Resistor B", 4 WB "Wiper Terminal of Resistor B", 5 NC "No Connection to this Terminal", 6 NC "No Connection to this Terminal", 7 ~{CS} (in) "SPI Chip Select", 8 DIN (in) "SPI Serial Data Input", 9 SCLK (in) "SPI Clock Input", 10 NC "No Connection to this Terminal", 11 VDD (power) "Power Supply, +2.7V to +5.5V. Connect a 0.1uF capacitor to GND.", 12 WA "Wiper Terminal of Resistor A", 13 HA "High Terminal of Resistor A", 14 LA "Low Terminal of Resistor A"

## MAX5413EUD+
designator U?
Dual,Low Drift, Digital Potentiometers with 3-Wire Serial SPI Control Interface, Volatile, Linear Taper, 256 Steps, -40 to 85 degC, 14-pin TSSOP (U14+1), Pb-Free; PartNumber: MAX5413EUD+; DatasheetVersion: Rev. 0; PackageVersion: Rev. L, 07/2010; PackageReference: U14+1; PackageDescription: 14-Pin Thin Shrink Small-Outline Package (U14+1), Body 5 x 4.4 mm, Pitch 0.65 mm; Supplier 1: Digi-Key; Supplier Part Number 1: MAX5413EUD+-ND; Supplier 2: Mouser; Supplier Part Number 2: 700-MAX5413EUD; Control Interface: 3-Wire Serial SPI; Mounting Technology: Surface Mount; Code_JEDEC: MO-153; ComponentLink1Description: Manufacturer URL; ComponentLink1URL: http://www.maximintegrated.com/; ComponentLink2Description: Datasheet; ComponentLink2URL: http://datasheets.maximintegrated.com/en/ds/MAX5413-MAX5415.pdf; ComponentLink3Description: Package Specification; ComponentLink3URL: http://pdfserv.maximintegrated.com/package_dwgs/21-0066.PDF
footprint MAXM-U14+1_N (SOP, 14-Leads, Body 5x4.4mm, Pitch 0.65mm, IPC Medium Density)
footprint MAXM-U14+1_L (SOP, 14-Leads, Body 5x4.4mm, Pitch 0.65mm, IPC High Density)
footprint MAXM-U14+1_M (SOP, 14-Leads, Body 5x4.4mm, Pitch 0.65mm, IPC Low Density)
pins: 1 GND (power) "Ground", 2 LB "Low Terminal of Resistor B", 3 HB "High Terminal of Resistor B", 4 WB "Wiper Terminal of Resistor B", 5 NC "No Connection to this Terminal", 6 NC "No Connection to this Terminal", 7 ~{CS} (in) "SPI Chip Select", 8 DIN (in) "SPI Serial Data Input", 9 SCLK (in) "SPI Clock Input", 10 NC "No Connection to this Terminal", 11 VDD (power) "Power Supply, +2.7V to +5.5V. Connect a 0.1uF capacitor to GND.", 12 WA "Wiper Terminal of Resistor A", 13 HA "High Terminal of Resistor A", 14 LA "Low Terminal of Resistor A"

## MAX5413EUD+T
designator U?
Dual,Low Drift, Digital Potentiometers with 3-Wire Serial SPI Control Interface, Volatile, Linear Taper, 256 Steps, -40 to 85 degC, 14-pin TSSOP (U14+1), Pb-Free, Tape and Reel; PartNumber: MAX5413EUD+T; DatasheetVersion: Rev. 0; PackageVersion: Rev. L, 07/2010; PackageReference: U14+1; PackageDescription: 14-Pin Thin Shrink Small-Outline Package (U14+1), Body 5 x 4.4 mm, Pitch 0.65 mm; Supplier 1: Digi-Key; Supplier Part Number 1: MAX5413EUD+T-ND; Supplier 2: Mouser; Supplier Part Number 2: 700-MAX5413EUDT; Control Interface: 3-Wire Serial SPI; Mounting Technology: Surface Mount; Code_JEDEC: MO-153; ComponentLink1Description: Manufacturer URL; ComponentLink1URL: http://www.maximintegrated.com/; ComponentLink2Description: Datasheet; ComponentLink2URL: http://datasheets.maximintegrated.com/en/ds/MAX5413-MAX5415.pdf; ComponentLink3Description: Package Specification; ComponentLink3URL: http://pdfserv.maximintegrated.com/package_dwgs/21-0066.PDF
footprint MAXM-U14+1_N (SOP, 14-Leads, Body 5x4.4mm, Pitch 0.65mm, IPC Medium Density)
footprint MAXM-U14+1_L (SOP, 14-Leads, Body 5x4.4mm, Pitch 0.65mm, IPC High Density)
footprint MAXM-U14+1_M (SOP, 14-Leads, Body 5x4.4mm, Pitch 0.65mm, IPC Low Density)
pins: 1 GND (power) "Ground", 2 LB "Low Terminal of Resistor B", 3 HB "High Terminal of Resistor B", 4 WB "Wiper Terminal of Resistor B", 5 NC "No Connection to this Terminal", 6 NC "No Connection to this Terminal", 7 ~{CS} (in) "SPI Chip Select", 8 DIN (in) "SPI Serial Data Input", 9 SCLK (in) "SPI Clock Input", 10 NC "No Connection to this Terminal", 11 VDD (power) "Power Supply, +2.7V to +5.5V. Connect a 0.1uF capacitor to GND.", 12 WA "Wiper Terminal of Resistor A", 13 HA "High Terminal of Resistor A", 14 LA "Low Terminal of Resistor A"

## MAX5413EUD-T
designator U?
Dual,Low Drift, Digital Potentiometers with 3-Wire Serial SPI Control Interface, Volatile, Linear Taper, 256 Steps, -40 to 85 degC, 14-pin TSSOP (U14-1), Tape and Reel; PartNumber: MAX5413EUD-T; DatasheetVersion: Rev. 0; PackageVersion: Rev. L, 07/2010; PackageReference: U14-1; PackageDescription: 14-Pin Thin Shrink Small-Outline Package (U14-1), Body 5 x 4.4 mm, Pitch 0.65 mm; Supplier 1: Mouser; Supplier Part Number 1: N/A; Control Interface: 3-Wire Serial SPI; Mounting Technology: Surface Mount; Code_JEDEC: MO-153; ComponentLink1Description: Manufacturer URL; ComponentLink1URL: http://www.maximintegrated.com/; ComponentLink2Description: Datasheet; ComponentLink2URL: http://datasheets.maximintegrated.com/en/ds/MAX5413-MAX5415.pdf; ComponentLink3Description: Package Specification; ComponentLink3URL: http://pdfserv.maximintegrated.com/package_dwgs/21-0066.PDF
footprint MAXM-U14-1_N (SOP, 14-Leads, Body 5x4.4mm, Pitch 0.65mm, IPC Medium Density)
footprint MAXM-U14-1_L (SOP, 14-Leads, Body 5x4.4mm, Pitch 0.65mm, IPC High Density)
footprint MAXM-U14-1_M (SOP, 14-Leads, Body 5x4.4mm, Pitch 0.65mm, IPC Low Density)
pins: 1 GND (power) "Ground", 2 LB "Low Terminal of Resistor B", 3 HB "High Terminal of Resistor B", 4 WB "Wiper Terminal of Resistor B", 5 NC "No Connection to this Terminal", 6 NC "No Connection to this Terminal", 7 ~{CS} (in) "SPI Chip Select", 8 DIN (in) "SPI Serial Data Input", 9 SCLK (in) "SPI Clock Input", 10 NC "No Connection to this Terminal", 11 VDD (power) "Power Supply, +2.7V to +5.5V. Connect a 0.1uF capacitor to GND.", 12 WA "Wiper Terminal of Resistor A", 13 HA "High Terminal of Resistor A", 14 LA "Low Terminal of Resistor A"

## MAX5414EUD
designator U?
Dual,Low Drift, Digital Potentiometers with 3-Wire Serial SPI Control Interface, Volatile, Linear Taper, 256 Steps, -40 to 85 degC, 14-pin TSSOP (U14-1); PartNumber: MAX5414EUD; DatasheetVersion: Rev. 0; PackageVersion: Rev. L, 07/2010; PackageReference: U14-1; PackageDescription: 14-Pin Thin Shrink Small-Outline Package (U14-1), Body 5 x 4.4 mm, Pitch 0.65 mm; Supplier 1: Mouser; Supplier Part Number 1: N/A; Control Interface: 3-Wire Serial SPI; Mounting Technology: Surface Mount; Code_JEDEC: MO-153; ComponentLink1Description: Manufacturer URL; ComponentLink1URL: http://www.maximintegrated.com/; ComponentLink2Description: Datasheet; ComponentLink2URL: http://datasheets.maximintegrated.com/en/ds/MAX5413-MAX5415.pdf; ComponentLink3Description: Package Specification; ComponentLink3URL: http://pdfserv.maximintegrated.com/package_dwgs/21-0066.PDF
footprint MAXM-U14-1_N (SOP, 14-Leads, Body 5x4.4mm, Pitch 0.65mm, IPC Medium Density)
footprint MAXM-U14-1_L (SOP, 14-Leads, Body 5x4.4mm, Pitch 0.65mm, IPC High Density)
footprint MAXM-U14-1_M (SOP, 14-Leads, Body 5x4.4mm, Pitch 0.65mm, IPC Low Density)
pins: 1 GND (power) "Ground", 2 LB "Low Terminal of Resistor B", 3 HB "High Terminal of Resistor B", 4 WB "Wiper Terminal of Resistor B", 5 NC "No Connection to this Terminal", 6 NC "No Connection to this Terminal", 7 ~{CS} (in) "SPI Chip Select", 8 DIN (in) "SPI Serial Data Input", 9 SCLK (in) "SPI Clock Input", 10 NC "No Connection to this Terminal", 11 VDD (power) "Power Supply, +2.7V to +5.5V. Connect a 0.1uF capacitor to GND.", 12 WA "Wiper Terminal of Resistor A", 13 HA "High Terminal of Resistor A", 14 LA "Low Terminal of Resistor A"

## MAX5414EUD+
designator U?
Dual,Low Drift, Digital Potentiometers with 3-Wire Serial SPI Control Interface, Volatile, Linear Taper, 256 Steps, -40 to 85 degC, 14-pin TSSOP (U14+1), Pb-Free; PartNumber: MAX5414EUD+; DatasheetVersion: Rev. 0; PackageVersion: Rev. L, 07/2010; PackageReference: U14+1; PackageDescription: 14-Pin Thin Shrink Small-Outline Package (U14+1), Body 5 x 4.4 mm, Pitch 0.65 mm; Supplier 1: Digi-Key; Supplier Part Number 1: MAX5414EUD+-ND; Supplier 2: Mouser; Supplier Part Number 2: 700-MAX5414EUD; Control Interface: 3-Wire Serial SPI; Mounting Technology: Surface Mount; Code_JEDEC: MO-153; ComponentLink1Description: Manufacturer URL; ComponentLink1URL: http://www.maximintegrated.com/; ComponentLink2Description: Datasheet; ComponentLink2URL: http://datasheets.maximintegrated.com/en/ds/MAX5413-MAX5415.pdf; ComponentLink3Description: Package Specification; ComponentLink3URL: http://pdfserv.maximintegrated.com/package_dwgs/21-0066.PDF
footprint MAXM-U14+1_N (SOP, 14-Leads, Body 5x4.4mm, Pitch 0.65mm, IPC Medium Density)
footprint MAXM-U14+1_L (SOP, 14-Leads, Body 5x4.4mm, Pitch 0.65mm, IPC High Density)
footprint MAXM-U14+1_M (SOP, 14-Leads, Body 5x4.4mm, Pitch 0.65mm, IPC Low Density)
pins: 1 GND (power) "Ground", 2 LB "Low Terminal of Resistor B", 3 HB "High Terminal of Resistor B", 4 WB "Wiper Terminal of Resistor B", 5 NC "No Connection to this Terminal", 6 NC "No Connection to this Terminal", 7 ~{CS} (in) "SPI Chip Select", 8 DIN (in) "SPI Serial Data Input", 9 SCLK (in) "SPI Clock Input", 10 NC "No Connection to this Terminal", 11 VDD (power) "Power Supply, +2.7V to +5.5V. Connect a 0.1uF capacitor to GND.", 12 WA "Wiper Terminal of Resistor A", 13 HA "High Terminal of Resistor A", 14 LA "Low Terminal of Resistor A"

## MAX5414EUD+T
designator U?
Dual,Low Drift, Digital Potentiometers with 3-Wire Serial SPI Control Interface, Volatile, Linear Taper, 256 Steps, -40 to 85 degC, 14-pin TSSOP (U14+1), Pb-Free, Tape and Reel; PartNumber: MAX5414EUD+T; DatasheetVersion: Rev. 0; PackageVersion: Rev. L, 07/2010; PackageReference: U14+1; PackageDescription: 14-Pin Thin Shrink Small-Outline Package (U14+1), Body 5 x 4.4 mm, Pitch 0.65 mm; Supplier 1: Digi-Key; Supplier Part Number 1: MAX5414EUD+T-ND; Supplier 2: Mouser; Supplier Part Number 2: 700-MAX5414EUDT; Control Interface: 3-Wire Serial SPI; Mounting Technology: Surface Mount; Code_JEDEC: MO-153; ComponentLink1Description: Manufacturer URL; ComponentLink1URL: http://www.maximintegrated.com/; ComponentLink2Description: Datasheet; ComponentLink2URL: http://datasheets.maximintegrated.com/en/ds/MAX5413-MAX5415.pdf; ComponentLink3Description: Package Specification; ComponentLink3URL: http://pdfserv.maximintegrated.com/package_dwgs/21-0066.PDF
footprint MAXM-U14+1_N (SOP, 14-Leads, Body 5x4.4mm, Pitch 0.65mm, IPC Medium Density)
footprint MAXM-U14+1_L (SOP, 14-Leads, Body 5x4.4mm, Pitch 0.65mm, IPC High Density)
footprint MAXM-U14+1_M (SOP, 14-Leads, Body 5x4.4mm, Pitch 0.65mm, IPC Low Density)
pins: 1 GND (power) "Ground", 2 LB "Low Terminal of Resistor B", 3 HB "High Terminal of Resistor B", 4 WB "Wiper Terminal of Resistor B", 5 NC "No Connection to this Terminal", 6 NC "No Connection to this Terminal", 7 ~{CS} (in) "SPI Chip Select", 8 DIN (in) "SPI Serial Data Input", 9 SCLK (in) "SPI Clock Input", 10 NC "No Connection to this Terminal", 11 VDD (power) "Power Supply, +2.7V to +5.5V. Connect a 0.1uF capacitor to GND.", 12 WA "Wiper Terminal of Resistor A", 13 HA "High Terminal of Resistor A", 14 LA "Low Terminal of Resistor A"

## MAX5414EUD-T
designator U?
Dual,Low Drift, Digital Potentiometers with 3-Wire Serial SPI Control Interface, Volatile, Linear Taper, 256 Steps, -40 to 85 degC, 14-pin TSSOP (U14-1), Tape and Reel; PartNumber: MAX5414EUD-T; DatasheetVersion: Rev. 0; PackageVersion: Rev. L, 07/2010; PackageReference: U14-1; PackageDescription: 14-Pin Thin Shrink Small-Outline Package (U14-1), Body 5 x 4.4 mm, Pitch 0.65 mm; Supplier 1: Mouser; Supplier Part Number 1: N/A; Control Interface: 3-Wire Serial SPI; Mounting Technology: Surface Mount; Code_JEDEC: MO-153; ComponentLink1Description: Manufacturer URL; ComponentLink1URL: http://www.maximintegrated.com/; ComponentLink2Description: Datasheet; ComponentLink2URL: http://datasheets.maximintegrated.com/en/ds/MAX5413-MAX5415.pdf; ComponentLink3Description: Package Specification; ComponentLink3URL: http://pdfserv.maximintegrated.com/package_dwgs/21-0066.PDF
footprint MAXM-U14-1_N (SOP, 14-Leads, Body 5x4.4mm, Pitch 0.65mm, IPC Medium Density)
footprint MAXM-U14-1_L (SOP, 14-Leads, Body 5x4.4mm, Pitch 0.65mm, IPC High Density)
footprint MAXM-U14-1_M (SOP, 14-Leads, Body 5x4.4mm, Pitch 0.65mm, IPC Low Density)
pins: 1 GND (power) "Ground", 2 LB "Low Terminal of Resistor B", 3 HB "High Terminal of Resistor B", 4 WB "Wiper Terminal of Resistor B", 5 NC "No Connection to this Terminal", 6 NC "No Connection to this Terminal", 7 ~{CS} (in) "SPI Chip Select", 8 DIN (in) "SPI Serial Data Input", 9 SCLK (in) "SPI Clock Input", 10 NC "No Connection to this Terminal", 11 VDD (power) "Power Supply, +2.7V to +5.5V. Connect a 0.1uF capacitor to GND.", 12 WA "Wiper Terminal of Resistor A", 13 HA "High Terminal of Resistor A", 14 LA "Low Terminal of Resistor A"

## MAX5415EUD
designator U?
Dual,Low Drift, Digital Potentiometers with 3-Wire Serial SPI Control Interface, Volatile, Linear Taper, 256 Steps, -40 to 85 degC, 14-pin TSSOP (U14-1); PartNumber: MAX5415EUD; DatasheetVersion: Rev. 0; PackageVersion: Rev. L, 07/2010; PackageReference: U14-1; PackageDescription: 14-Pin Thin Shrink Small-Outline Package (U14-1), Body 5 x 4.4 mm, Pitch 0.65 mm; Supplier 1: Digi-Key; Supplier Part Number 1: MAX5415EUD-ND; Supplier 2: Mouser; Supplier Part Number 2: N/A; Control Interface: 3-Wire Serial SPI; Mounting Technology: Surface Mount; Code_JEDEC: MO-153; ComponentLink1Description: Manufacturer URL; ComponentLink1URL: http://www.maximintegrated.com/; ComponentLink2Description: Datasheet; ComponentLink2URL: http://datasheets.maximintegrated.com/en/ds/MAX5413-MAX5415.pdf; ComponentLink3Description: Package Specification; ComponentLink3URL: http://pdfserv.maximintegrated.com/package_dwgs/21-0066.PDF
footprint MAXM-U14-1_N (SOP, 14-Leads, Body 5x4.4mm, Pitch 0.65mm, IPC Medium Density)
footprint MAXM-U14-1_L (SOP, 14-Leads, Body 5x4.4mm, Pitch 0.65mm, IPC High Density)
footprint MAXM-U14-1_M (SOP, 14-Leads, Body 5x4.4mm, Pitch 0.65mm, IPC Low Density)
pins: 1 GND (power) "Ground", 2 LB "Low Terminal of Resistor B", 3 HB "High Terminal of Resistor B", 4 WB "Wiper Terminal of Resistor B", 5 NC "No Connection to this Terminal", 6 NC "No Connection to this Terminal", 7 ~{CS} (in) "SPI Chip Select", 8 DIN (in) "SPI Serial Data Input", 9 SCLK (in) "SPI Clock Input", 10 NC "No Connection to this Terminal", 11 VDD (power) "Power Supply, +2.7V to +5.5V. Connect a 0.1uF capacitor to GND.", 12 WA "Wiper Terminal of Resistor A", 13 HA "High Terminal of Resistor A", 14 LA "Low Terminal of Resistor A"

## MAX5415EUD+
designator U?
Dual,Low Drift, Digital Potentiometers with 3-Wire Serial SPI Control Interface, Volatile, Linear Taper, 256 Steps, -40 to 85 degC, 14-pin TSSOP (U14+1), Pb-Free; PartNumber: MAX5415EUD+; DatasheetVersion: Rev. 0; PackageVersion: Rev. L, 07/2010; PackageReference: U14+1; PackageDescription: 14-Pin Thin Shrink Small-Outline Package (U14+1), Body 5 x 4.4 mm, Pitch 0.65 mm; Supplier 1: Digi-Key; Supplier Part Number 1: MAX5415EUD+-ND; Supplier 2: Mouser; Supplier Part Number 2: 700-MAX5415EUD; Control Interface: 3-Wire Serial SPI; Mounting Technology: Surface Mount; Code_JEDEC: MO-153; ComponentLink1Description: Manufacturer URL; ComponentLink1URL: http://www.maximintegrated.com/; ComponentLink2Description: Datasheet; ComponentLink2URL: http://datasheets.maximintegrated.com/en/ds/MAX5413-MAX5415.pdf; ComponentLink3Description: Package Specification; ComponentLink3URL: http://pdfserv.maximintegrated.com/package_dwgs/21-0066.PDF
footprint MAXM-U14+1_N (SOP, 14-Leads, Body 5x4.4mm, Pitch 0.65mm, IPC Medium Density)
footprint MAXM-U14+1_L (SOP, 14-Leads, Body 5x4.4mm, Pitch 0.65mm, IPC High Density)
footprint MAXM-U14+1_M (SOP, 14-Leads, Body 5x4.4mm, Pitch 0.65mm, IPC Low Density)
pins: 1 GND (power) "Ground", 2 LB "Low Terminal of Resistor B", 3 HB "High Terminal of Resistor B", 4 WB "Wiper Terminal of Resistor B", 5 NC "No Connection to this Terminal", 6 NC "No Connection to this Terminal", 7 ~{CS} (in) "SPI Chip Select", 8 DIN (in) "SPI Serial Data Input", 9 SCLK (in) "SPI Clock Input", 10 NC "No Connection to this Terminal", 11 VDD (power) "Power Supply, +2.7V to +5.5V. Connect a 0.1uF capacitor to GND.", 12 WA "Wiper Terminal of Resistor A", 13 HA "High Terminal of Resistor A", 14 LA "Low Terminal of Resistor A"

## MAX5415EUD+T
designator U?
Dual,Low Drift, Digital Potentiometers with 3-Wire Serial SPI Control Interface, Volatile, Linear Taper, 256 Steps, -40 to 85 degC, 14-pin TSSOP (U14+1), Pb-Free, Tape and Reel; PartNumber: MAX5415EUD+T; DatasheetVersion: Rev. 0; PackageVersion: Rev. L, 07/2010; PackageReference: U14+1; PackageDescription: 14-Pin Thin Shrink Small-Outline Package (U14+1), Body 5 x 4.4 mm, Pitch 0.65 mm; Supplier 1: Digi-Key; Supplier Part Number 1: MAX5415EUD+T-ND; Supplier 2: Mouser; Supplier Part Number 2: 700-MAX5415EUDT; Control Interface: 3-Wire Serial SPI; Mounting Technology: Surface Mount; Code_JEDEC: MO-153; ComponentLink1Description: Manufacturer URL; ComponentLink1URL: http://www.maximintegrated.com/; ComponentLink2Description: Datasheet; ComponentLink2URL: http://datasheets.maximintegrated.com/en/ds/MAX5413-MAX5415.pdf; ComponentLink3Description: Package Specification; ComponentLink3URL: http://pdfserv.maximintegrated.com/package_dwgs/21-0066.PDF
footprint MAXM-U14+1_N (SOP, 14-Leads, Body 5x4.4mm, Pitch 0.65mm, IPC Medium Density)
footprint MAXM-U14+1_L (SOP, 14-Leads, Body 5x4.4mm, Pitch 0.65mm, IPC High Density)
footprint MAXM-U14+1_M (SOP, 14-Leads, Body 5x4.4mm, Pitch 0.65mm, IPC Low Density)
pins: 1 GND (power) "Ground", 2 LB "Low Terminal of Resistor B", 3 HB "High Terminal of Resistor B", 4 WB "Wiper Terminal of Resistor B", 5 NC "No Connection to this Terminal", 6 NC "No Connection to this Terminal", 7 ~{CS} (in) "SPI Chip Select", 8 DIN (in) "SPI Serial Data Input", 9 SCLK (in) "SPI Clock Input", 10 NC "No Connection to this Terminal", 11 VDD (power) "Power Supply, +2.7V to +5.5V. Connect a 0.1uF capacitor to GND.", 12 WA "Wiper Terminal of Resistor A", 13 HA "High Terminal of Resistor A", 14 LA "Low Terminal of Resistor A"

## MAX5415EUD-T
designator U?
Dual, Low Drift, Digital Potentiometers with 3-Wire Serial SPI Control Interface, Volatile, Linear Taper, 256 Steps, -40 to 85 degC, 14-pin TSSOP (U14-1), Tape and Reel; PartNumber: MAX5415EUD-T; DatasheetVersion: Rev. 0; PackageVersion: Rev. L, 07/2010; PackageReference: U14-1; PackageDescription: 14-Pin Thin Shrink Small-Outline Package (U14-1), Body 5 x 4.4 mm, Pitch 0.65 mm; Supplier 1: Mouser; Supplier Part Number 1: N/A; Control Interface: 3-Wire Serial SPI; Mounting Technology: Surface Mount; Code_JEDEC: MO-153; ComponentLink1Description: Manufacturer URL; ComponentLink1URL: http://www.maximintegrated.com/; ComponentLink2Description: Datasheet; ComponentLink2URL: http://datasheets.maximintegrated.com/en/ds/MAX5413-MAX5415.pdf; ComponentLink3Description: Package Specification; ComponentLink3URL: http://pdfserv.maximintegrated.com/package_dwgs/21-0066.PDF
footprint MAXM-U14-1_N (SOP, 14-Leads, Body 5x4.4mm, Pitch 0.65mm, IPC Medium Density)
footprint MAXM-U14-1_L (SOP, 14-Leads, Body 5x4.4mm, Pitch 0.65mm, IPC High Density)
footprint MAXM-U14-1_M (SOP, 14-Leads, Body 5x4.4mm, Pitch 0.65mm, IPC Low Density)
pins: 1 GND (power) "Ground", 2 LB "Low Terminal of Resistor B", 3 HB "High Terminal of Resistor B", 4 WB "Wiper Terminal of Resistor B", 5 NC "No Connection to this Terminal", 6 NC "No Connection to this Terminal", 7 ~{CS} (in) "SPI Chip Select", 8 DIN (in) "SPI Serial Data Input", 9 SCLK (in) "SPI Clock Input", 10 NC "No Connection to this Terminal", 11 VDD (power) "Power Supply, +2.7V to +5.5V. Connect a 0.1uF capacitor to GND.", 12 WA "Wiper Terminal of Resistor A", 13 HA "High Terminal of Resistor A", 14 LA "Low Terminal of Resistor A"

## MAX5417LETA+
designator U?
50 kOhm, I2C-Interface Digital Potentiometer with 2-Wire Serial Control Interface, Non-Volatile, Linear Taper, 256 Steps, -40 to 85 degC, 8-pin TDFN-EP (T833+2), Pb-Free; PartNumber: MAX5417LETA+; DatasheetVersion: Rev. 4; PackageVersion: Rev. J, 08/2009; PackageReference: T833+2; PackageDescription: 8-Pin Plastic Very Very Thin Dual Flatpack No Leads, Exposed Pad (T833+2); Supplier 1: Mouser; Supplier Part Number 1: N/A; Control Interface: 2-Wire Serial; Features: EEPROM Wiper Memory; Mounting Technology: Surface Mount; Code_JEDEC: MO229; ComponentLink1Description: Manufacturer URL; ComponentLink1URL: http://www.maximintegrated.com/; ComponentLink2Description: Datasheet; ComponentLink2URL: http://datasheets.maximintegrated.com/en/ds/MAX5417-MAX5419.pdf; ComponentLink3Description: Package Specification; ComponentLink3URL: http://pdfserv.maximintegrated.com/package_dwgs/21-0137.PDF
footprint MAXM-T833+2_V (SON, 8-Leads, Body 3x3 mm, Pitch 0.65mm, Thermal Pad 2.3x1.5mm)
pins: 1 VDD (power) "Power-Supply Input. 2.7V to 5.25V voltage range. Bypass with a 0.1uF capacitor from VDD to GND.", 2 SCL (in) "I2C-Interface Clock Input", 3 SDA (io) "I2C-Interface Data Input", 4 A0 (in) "Address Input. Sets the A0 bit in the device ID address.", 5 GND (power) "Ground", 6 L "Low Terminal", 7 W "Wiper Terminal", 8 H "High Terminal", 9 EP (power) "Exposed Pad. Internally connected to GND. Connect to a large ground plane to maximize thermal performance. Not intended as an electrical point."

## MAX5417LETA+T
designator U?
50 kOhm, I2C-Interface Digital Potentiometer with 2-Wire Serial Control Interface, Non-Volatile, Linear Taper, 256 Steps, -40 to 85 degC, 8-pin TDFN-EP (T833+2), Pb-Free, Tape and Reel; PartNumber: MAX5417LETA+T; DatasheetVersion: Rev. 4; PackageVersion: Rev. J, 08/2009; PackageReference: T833+2; PackageDescription: 8-Pin Plastic Very Very Thin Dual Flatpack No Leads, Exposed Pad (T833+2); Supplier 1: Digi-Key; Supplier Part Number 1: MAX5417LETA+TTR-ND; Supplier 2: Digi-Key; Supplier Part Number 2: MAX5417LETA+TCT-ND; Supplier 3: Digi-Key; Supplier Part Number 3: MAX5417LETA+TDKR-ND; Supplier 4: Mouser; Supplier Part Number 4: 700-MAX5417LETAT; Control Interface: 2-Wire Serial; Features: EEPROM Wiper Memory; Mounting Technology: Surface Mount; Code_JEDEC: MO229; ComponentLink1Description: Manufacturer URL; ComponentLink1URL: http://www.maximintegrated.com/; ComponentLink2Description: Datasheet; ComponentLink2URL: http://datasheets.maximintegrated.com/en/ds/MAX5417-MAX5419.pdf; ComponentLink3Description: Package Specification; ComponentLink3URL: http://pdfserv.maximintegrated.com/package_dwgs/21-0137.PDF
footprint MAXM-T833+2_V (SON, 8-Leads, Body 3x3 mm, Pitch 0.65mm, Thermal Pad 2.3x1.5mm)
pins: 1 VDD (power) "Power-Supply Input. 2.7V to 5.25V voltage range. Bypass with a 0.1uF capacitor from VDD to GND.", 2 SCL (in) "I2C-Interface Clock Input", 3 SDA (io) "I2C-Interface Data Input", 4 A0 (in) "Address Input. Sets the A0 bit in the device ID address.", 5 GND (power) "Ground", 6 L "Low Terminal", 7 W "Wiper Terminal", 8 H "High Terminal", 9 EP (power) "Exposed Pad. Internally connected to GND. Connect to a large ground plane to maximize thermal performance. Not intended as an electrical point."

## MAX5417LETA-T
designator U?
50 kOhm, I2C-Interface Digital Potentiometer with 2-Wire Serial Control Interface, Non-Volatile, Linear Taper, 256 Steps, -40 to 85 degC, 8-pin TDFN-EP (T833-2), Tape and Reel; PartNumber: MAX5417LETA-T; DatasheetVersion: Rev. 4; PackageVersion: Rev. J, 08/2009; PackageReference: T833-2; PackageDescription: 8-Pin Plastic Very Very Thin Dual Flatpack No Leads, Exposed Pad, Body 3 x 3 mm, Pitch 0.65 mm; Supplier 1: Mouser; Supplier Part Number 1: N/A; Control Interface: 2-Wire Serial; Features: EEPROM Wiper Memory; Mounting Technology: Surface Mount; Code_JEDEC: MO229; ComponentLink1Description: Manufacturer URL; ComponentLink1URL: http://www.maximintegrated.com/; ComponentLink2Description: Datasheet; ComponentLink2URL: http://datasheets.maximintegrated.com/en/ds/MAX5417-MAX5419.pdf; ComponentLink3Description: Package Specification; ComponentLink3URL: http://pdfserv.maximintegrated.com/package_dwgs/21-0137.PDF
footprint MAXM-T833-2_V (SON, 8-Leads, Body 3x3mm, Pitch 0.65mm, Thermal Pad 2.3x1.5mm, Recommended)
pins: 1 VDD (power) "Power-Supply Input. 2.7V to 5.25V voltage range. Bypass with a 0.1uF capacitor from VDD to GND.", 2 SCL (in) "I2C-Interface Clock Input", 3 SDA (io) "I2C-Interface Data Input", 4 A0 (in) "Address Input. Sets the A0 bit in the device ID address.", 5 GND (power) "Ground", 6 L "Low Terminal", 7 W "Wiper Terminal", 8 H "High Terminal", 9 EP (power) "Exposed Pad. Internally connected to GND. Connect to a large ground plane to maximize thermal performance. Not intended as an electrical point."